# Altium integrated library Kondensator_DIP.IntLib: 1521 symbols (part 5 of 5)
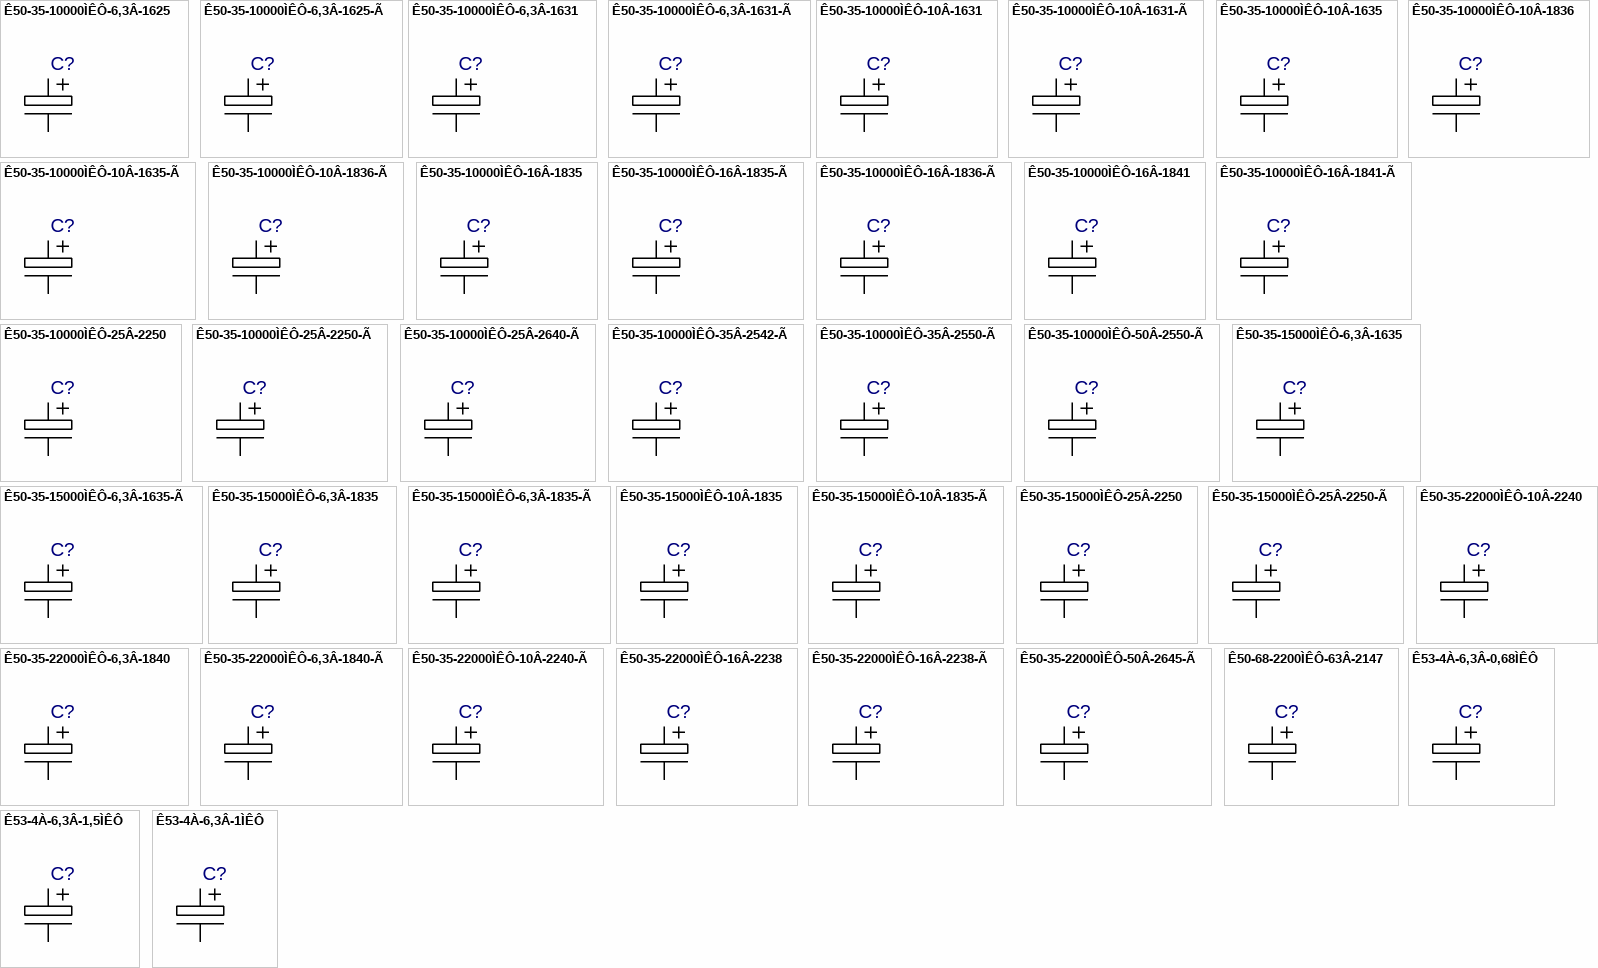
[diagram p42: symbols Ê50-35-10000ÌÊÔ-6,3Â-1625 to Ê53-4À-6,3Â-1ÌÊÔ]

## Ê50-35-10000ÌÊÔ-25Â-2640-Ã
designator C?  (value not drawn)
Value: *
footprint Ê50-35-26XX-Ã_K5035-1R
footprint Ê50-35-26XX-Ã_K5035-1R1
footprint Ê50-35-26XX-Ã_Primary
pins: 1, 2

## Ê50-35-10000ÌÊÔ-35Â-2542-Ã
designator C?  (value not drawn)
Value: *
footprint Ê50-35-25XX-Ã_K5035-1R
footprint Ê50-35-25XX-Ã_K5035-1R1
footprint Ê50-35-25XX-Ã_Primary
pins: 1, 2

## Ê50-35-10000ÌÊÔ-35Â-2550-Ã
designator C?  (value not drawn)
Value: *
footprint Ê50-35-25XX-Ã_K5035-1R
footprint Ê50-35-25XX-Ã_K5035-1R1
footprint Ê50-35-25XX-Ã_Primary
pins: 1, 2

## Ê50-35-10000ÌÊÔ-50Â-2550-Ã
designator C?  (value not drawn)
Value: *
footprint Ê50-35-25XX-Ã_K5035-1R
footprint Ê50-35-25XX-Ã_K5035-1R1
footprint Ê50-35-25XX-Ã_Primary
pins: 1, 2

## Ê50-35-15000ÌÊÔ-6,3Â-1635
designator C?  (value not drawn)
Value: *
footprint Ê50-35-1625_K5035-1R
footprint Ê50-35-1625_K5035-1R1
footprint Ê50-35-1625_Primary
pins: 1, 2

## Ê50-35-15000ÌÊÔ-6,3Â-1635-Ã
designator C?  (value not drawn)
Value: *
footprint Ê50-35-16XX-Ã_K5035-1R
footprint Ê50-35-16XX-Ã_K5035-1R1
footprint Ê50-35-16XX-Ã_Primary
pins: 1, 2

## Ê50-35-15000ÌÊÔ-6,3Â-1835
designator C?  (value not drawn)
Value: *
footprint Ê50-35-1835_K5035-1R
footprint Ê50-35-1835_K5035-1R1
footprint Ê50-35-1835_Primary
pins: 1, 2

## Ê50-35-15000ÌÊÔ-6,3Â-1835-Ã
designator C?  (value not drawn)
Value: *
footprint Ê50-35-18XX-Ã_K5035-1R
footprint Ê50-35-18XX-Ã_K5035-1R1
footprint Ê50-35-18XX-Ã_Primary
pins: 1, 2

## Ê50-35-15000ÌÊÔ-10Â-1835
designator C?  (value not drawn)
Value: *
footprint Ê50-35-1835_K5035-1R
footprint Ê50-35-1835_K5035-1R1
footprint Ê50-35-1835_Primary
pins: 1, 2

## Ê50-35-15000ÌÊÔ-10Â-1835-Ã
designator C?  (value not drawn)
Value: *
footprint Ê50-35-18XX-Ã_K5035-1R
footprint Ê50-35-18XX-Ã_K5035-1R1
footprint Ê50-35-18XX-Ã_Primary
pins: 1, 2

## Ê50-35-15000ÌÊÔ-25Â-2250
designator C?  (value not drawn)
Value: *
footprint Ê50-35-2240_K5035-1R
footprint Ê50-35-2240_K5035-1R1
footprint Ê50-35-2240_Primary
pins: 1, 2

## Ê50-35-15000ÌÊÔ-25Â-2250-Ã
designator C?  (value not drawn)
Value: *
footprint Ê50-35-22XX-Ã_K5035-1R
footprint Ê50-35-22XX-Ã_K5035-1R1
footprint Ê50-35-22XX-Ã_Primary
pins: 1, 2

## Ê50-35-22000ÌÊÔ-6,3Â-1840
designator C?  (value not drawn)
Value: *
footprint Ê50-35-1835_K5035-1R
footprint Ê50-35-1835_K5035-1R1
footprint Ê50-35-1835_Primary
pins: 1, 2

## Ê50-35-22000ÌÊÔ-6,3Â-1840-Ã
designator C?  (value not drawn)
Value: *
footprint Ê50-35-18XX-Ã_K5035-1R
footprint Ê50-35-18XX-Ã_K5035-1R1
footprint Ê50-35-18XX-Ã_Primary
pins: 1, 2

## Ê50-35-22000ÌÊÔ-10Â-2240
designator C?  (value not drawn)
Value: *
footprint Ê50-35-2240_K5035-1R
footprint Ê50-35-2240_K5035-1R1
footprint Ê50-35-2240_Primary
pins: 1, 2

## Ê50-35-22000ÌÊÔ-10Â-2240-Ã
designator C?  (value not drawn)
Value: *
footprint Ê50-35-22XX-Ã_K5035-1R
footprint Ê50-35-22XX-Ã_K5035-1R1
footprint Ê50-35-22XX-Ã_Primary
pins: 1, 2

## Ê50-35-22000ÌÊÔ-16Â-2238
designator C?  (value not drawn)
Value: *
footprint Ê50-35-2240_K5035-1R
footprint Ê50-35-2240_K5035-1R1
footprint Ê50-35-2240_Primary
pins: 1, 2

## Ê50-35-22000ÌÊÔ-16Â-2238-Ã
designator C?  (value not drawn)
Value: *
footprint Ê50-35-22XX-Ã_K5035-1R
footprint Ê50-35-22XX-Ã_K5035-1R1
footprint Ê50-35-22XX-Ã_Primary
pins: 1, 2

## Ê50-35-22000ÌÊÔ-50Â-2645-Ã
designator C?  (value not drawn)
Value: *
footprint Ê50-35-26XX-Ã_K5035-1R
footprint Ê50-35-26XX-Ã_K5035-1R1
footprint Ê50-35-26XX-Ã_Primary
pins: 1, 2

## Ê50-68-2200ÌÊÔ-63Â-2147
designator C?  (value not drawn)
Value: *
footprint Ê50-35-2240_K5035-1R
footprint Ê50-35-2240_K5035-1R1
footprint Ê50-35-2240_Primary
pins: 1, 2

## Ê53-4À-6,3Â-0,68ÌÊÔ
designator C?  (value not drawn)
Value: *
footprint 3,2X7,5X0,6
pins: 1, 2

## Ê53-4À-6,3Â-1,5ÌÊÔ
designator C?  (value not drawn)
Value: *
footprint 3,2X7,5X0,6
pins: 1, 2

## Ê53-4À-6,3Â-1ÌÊÔ
designator C?  (value not drawn)
Value: *
footprint 3,2X7,5X0,6
pins: 1, 2

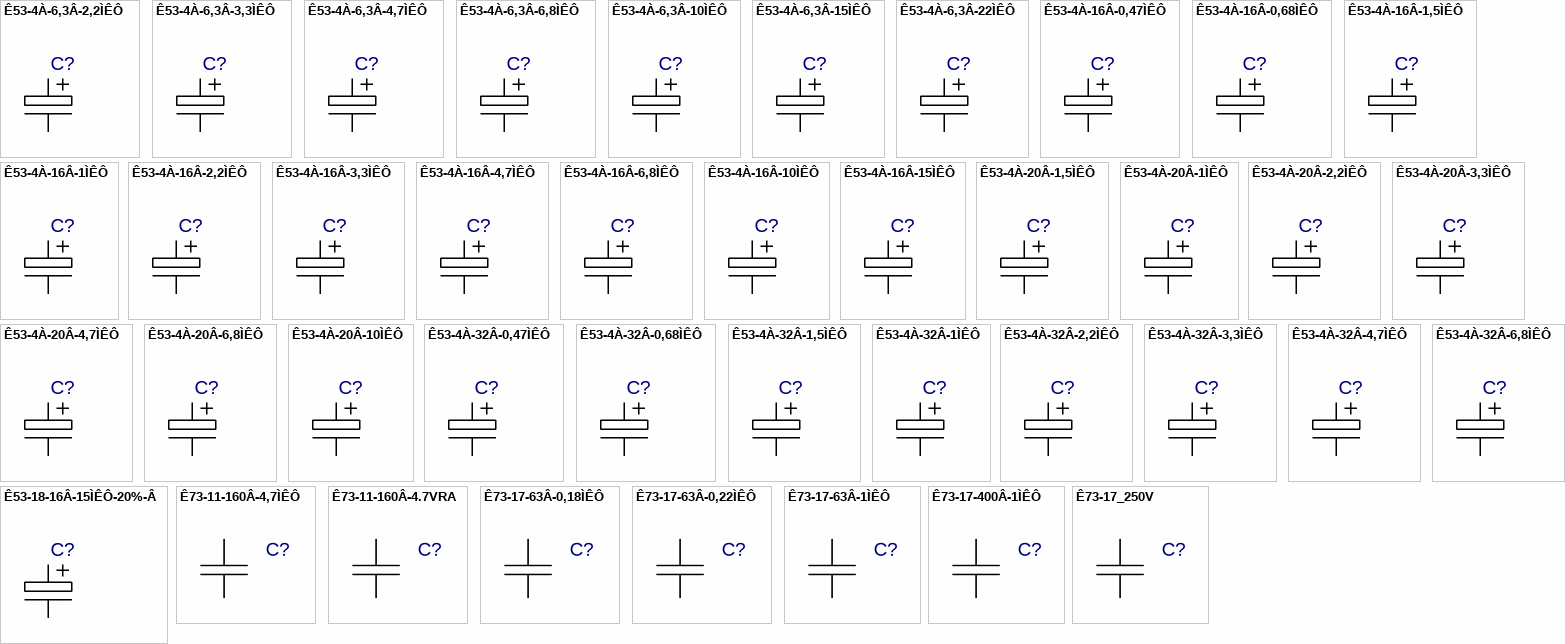
[diagram p37: symbols Ê53-4À-6,3Â-2,2ÌÊÔ to Ê73-17_250V]

## Ê53-4À-6,3Â-2,2ÌÊÔ
designator C?  (value not drawn)
Value: *
footprint 3,2X7,5X0,6
pins: 1, 2

## Ê53-4À-6,3Â-3,3ÌÊÔ
designator C?  (value not drawn)
Value: *
footprint 3,2X7,5X0,6
pins: 1, 2

## Ê53-4À-6,3Â-4,7ÌÊÔ
designator C?  (value not drawn)
Value: *
footprint 3,2X7,5X0,6
pins: 1, 2

## Ê53-4À-6,3Â-6,8ÌÊÔ
designator C?  (value not drawn)
Value: *
footprint 4,0X10,0X1,0
pins: 1, 2

## Ê53-4À-6,3Â-10ÌÊÔ
designator C?  (value not drawn)
Value: *
footprint 4,0X10,0X1,0
pins: 1, 2

## Ê53-4À-6,3Â-15ÌÊÔ
designator C?  (value not drawn)
Value: *
footprint 4,0X13,0X1,3
pins: 1, 2

## Ê53-4À-6,3Â-22ÌÊÔ
designator C?  (value not drawn)
Value: *
footprint 4,0X13,0X1,3
pins: 1, 2

## Ê53-4À-16Â-0,47ÌÊÔ
designator C?  (value not drawn)
Value: *
footprint 3,2X7,5X0,6
pins: 1, 2

## Ê53-4À-16Â-0,68ÌÊÔ
designator C?  (value not drawn)
Value: *
footprint 3,2X7,5X0,6
pins: 1, 2

## Ê53-4À-16Â-1,5ÌÊÔ
designator C?  (value not drawn)
Value: *
footprint 3,2X7,5X0,6
pins: 1, 2

## Ê53-4À-16Â-1ÌÊÔ
designator C?  (value not drawn)
Value: *
footprint 3,2X7,5X0,6
pins: 1, 2

## Ê53-4À-16Â-2,2ÌÊÔ
designator C?  (value not drawn)
Value: *
footprint 3,2X7,5X0,6
pins: 1, 2

## Ê53-4À-16Â-3,3ÌÊÔ
designator C?  (value not drawn)
Value: *
footprint 3,2X7,5X0,6
pins: 1, 2

## Ê53-4À-16Â-4,7ÌÊÔ
designator C?  (value not drawn)
Value: *
footprint 4,0X10,0X1,0
pins: 1, 2

## Ê53-4À-16Â-6,8ÌÊÔ
designator C?  (value not drawn)
Value: *
footprint 4,0X10,0X1,0
pins: 1, 2

## Ê53-4À-16Â-10ÌÊÔ
designator C?  (value not drawn)
Value: *
footprint 4,0X13,0X1,3
pins: 1, 2

## Ê53-4À-16Â-15ÌÊÔ
designator C?  (value not drawn)
Value: *
footprint 4,0X13,0X1,3
pins: 1, 2

## Ê53-4À-20Â-1,5ÌÊÔ
designator C?  (value not drawn)
Value: *
footprint 3,2X7,5X0,6
pins: 1, 2

## Ê53-4À-20Â-1ÌÊÔ
designator C?  (value not drawn)
Value: *
footprint 3,2X7,5X0,6
pins: 1, 2

## Ê53-4À-20Â-2,2ÌÊÔ
designator C?  (value not drawn)
Value: *
footprint 3,2X7,5X0,6
pins: 1, 2

## Ê53-4À-20Â-3,3ÌÊÔ
designator C?  (value not drawn)
Value: *
footprint 4,0X10,0X1,0
pins: 1, 2

## Ê53-4À-20Â-4,7ÌÊÔ
designator C?  (value not drawn)
Value: *
footprint 4,0X10,0X1,0
pins: 1, 2

## Ê53-4À-20Â-6,8ÌÊÔ
designator C?  (value not drawn)
Value: *
footprint 4,0X13,0X1,3
pins: 1, 2

## Ê53-4À-20Â-10ÌÊÔ
designator C?  (value not drawn)
Value: *
footprint 4,0X13,0X1,3
pins: 1, 2

## Ê53-4À-32Â-0,47ÌÊÔ
designator C?  (value not drawn)
Value: *
footprint 3,2X7,5X0,6
pins: 1, 2

## Ê53-4À-32Â-0,68ÌÊÔ
designator C?  (value not drawn)
Value: *
footprint 3,2X7,5X0,6
pins: 1, 2

## Ê53-4À-32Â-1,5ÌÊÔ
designator C?  (value not drawn)
Value: *
footprint 4,0X10,0X1,0
pins: 1, 2

## Ê53-4À-32Â-1ÌÊÔ
designator C?  (value not drawn)
Value: *
footprint 3,2X7,5X0,6
pins: 1, 2

## Ê53-4À-32Â-2,2ÌÊÔ
designator C?  (value not drawn)
Value: *
footprint 4,0X10,0X1,0
pins: 1, 2

## Ê53-4À-32Â-3,3ÌÊÔ
designator C?  (value not drawn)
Value: *
footprint 4,0X13,0X1,3
pins: 1, 2

## Ê53-4À-32Â-4,7ÌÊÔ
designator C?  (value not drawn)
Value: *
footprint 4,0X13,0X1,3
pins: 1, 2

## Ê53-4À-32Â-6,8ÌÊÔ
designator C?  (value not drawn)
Value: *
footprint 4,0X13,0X1,3
pins: 1, 2

## Ê53-18-16Â-15ÌÊÔ-20%-Â
designator C?  (value not drawn)
Value: *
footprint Ê53-18 (4 X 10)
pins: 1 2, 2 1

## Ê73-11-160Â-4,7ÌÊÔ
designator C?  (value not drawn)
Value: *
footprint K73-11-160Â-4,7ÌÊÔ
pins: 1, 2

## Ê73-11-160Â-4.7VRA
designator C?  (value not drawn)
Value: *
footprint K73-11-160Â-4,7ÌÊÔ
pins: 1, 2

## Ê73-17-63Â-0,18ÌÊÔ
designator C?  (value not drawn)
Value: *
footprint Ê73-17-12X6
pins: 1, 2

## Ê73-17-63Â-0,22ÌÊÔ
designator C?  (value not drawn)
Value: *
footprint Ê73-17-12X6
pins: 1, 2

## Ê73-17-63Â-1ÌÊÔ
designator C?  (value not drawn)
Value: *
footprint Ê73-17-18X8
pins: 1, 2

## Ê73-17-400Â-1ÌÊÔ
designator C?  (value not drawn)
Value: *
footprint K73-17-400Â-1ÌÊÔ
pins: 1, 2

## Ê73-17_250V
designator C?  (value not drawn)
Value: *
footprint Ê73-17_250V
pins: 1, 2

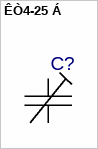
[diagram p38: symbol ÊÒ4-25 Á]

## ÊÒ4-25 Á
designator C?  (value not drawn)
Value: *
footprint KT4-25 Á
pins: 1, 2